# EAGLE library part ADS1286U (library burr-brown)
12-Bit, 37 kSPS ADC
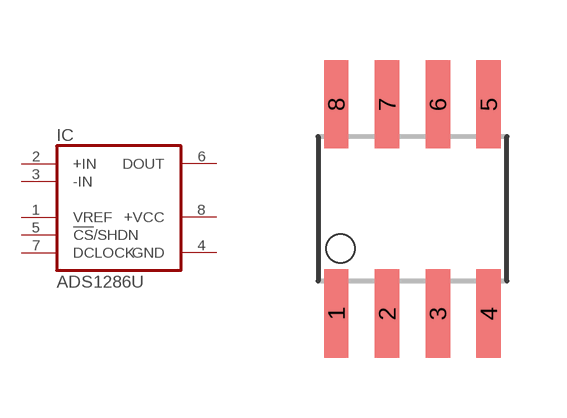
[diagram p65: symbol with the pads of SO-08; footprint SO-08]

Designator prefix IC

## ADS1286U  [SO-08]
1  VREF  in
2  +IN  in
3  -IN  in
4  GND  pwr
5  !CS!/SHDN  in
6  DOUT  out
7  DCLOCK  in
8  +VCC  pwr

## Footprint SO-08 (pad centres in mm)
smd 0.61 x 2.21: 1 -1.905,-2.616; 2 -0.635,-2.616; 3 0.635,-2.616; 4 1.905,-2.616; 5 1.905,2.616; 6 0.635,2.616; 7 -0.635,2.616; 8 -1.905,2.616